# Altium footprint library Antennas.PcbLib: 4 footprints
Each footprint in its own frame and in the unit in brackets; x right, y up, seen from the top. Pads: shape width x height; smd on the part's side, far side on the other; paste and mask are expansions set on the pad; w line width, h text height; cw(c..) or ccw(c..) is an arc to the next point about the centre after c.
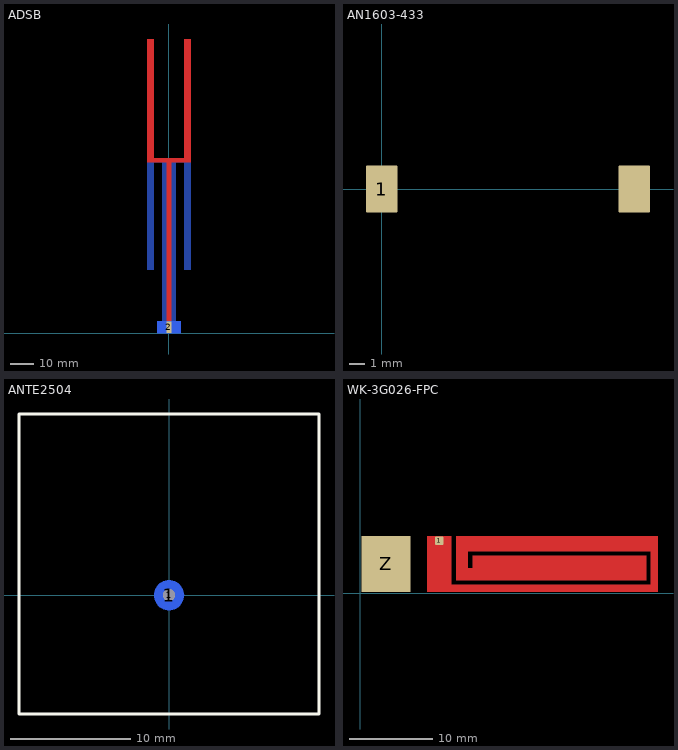
[diagram p0: the footprints below, top view; thin cyan lines are the x and y axes]

## ADSB [mm]
pads (2):
  rect 2x5 smd: 1(0,2.5)
  rect 10x5 smd far side: 2(0,2.5)
Top Layer:
  rectangle: 6.5,73 9.5,126
  rectangle: -9.5,73 -6.5,126
  rectangle: -9.5,73 9.5,75
  rectangle: -1,3 1,73
Bottom Layer:
  rectangle: 6.5,27 9.5,75
  rectangle: -9.5,27 -6.5,75
  rectangle: -9.5,73 9.5,75
  rectangle: -3,0 3,73

## AN1603-433 [mm] "Rainsun"
pads (2):
  rrect10% 2x3 smd: 1(0,0) ""(16,0)
3D body "User Library-AN1603.step": height 1.66, standoff -0.01, extent 0,-1.55 16,1.57

## ANTE2504 [mm] "GNSS GPS GLONASS Antenna Passive Antenna 25 x 25 x 4mm"
pads (2):
  round 1 hole 1 mask+1.5: 1(0,0)
  round 2.5 smd far side: 1(0,0)
Top Overlay:
  lines w0.254: -12.5,-9.9 12.5,-9.9 12.5,15.1 -12.5,15.1 -12.5,-9.9
3D body "User Library-YDRA-A25-1575.step": height 5, standoff -3, extent -12.5,-9.9 12.5,15.1

## WK-3G026-FPC [mm] "GSM"
pads (2):
  rrect20% 1x1 smd: 1(9.5,6.3)
  rect 5.9x6.8 smd: Z(3.1,3.5)
Top Layer:
  rectangle: 8,0.1 11,6.9
  rectangle: 11,0.1 35.9,1
  rectangle: 35,0.1 35.9,6.9
  rectangle: 11.5,5 35,6.9
  rectangle: 11.5,1.5 13,5
  rectangle: 13,1.5 34.5,3
  rectangle: 13.5,3 34.5,4.5